# EAGLE library part G5V-2 (library df4iah_relay)
OMRON PCB Relay Source: http://www.omron.com/ecb/products/pdf/en-g5v2.pdf
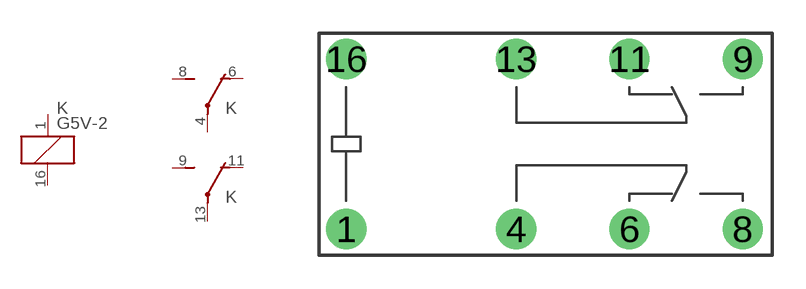
[diagram p143: symbol with the pads of G5V-2; footprint G5V-2]

Designator prefix K; gates A=K 1=U 2=U

## G5V-2 (MPN: G5V-2 5DC; OC_FARNELL: 9949488; OC_NEWARK: 78K5703)  [G5V-2]
1  A:1  pas
4  1:P  pas
6  1:O  pas
8  1:S  pas
9  2:S  pas
11  2:O  pas
13  2:P  pas
16  A:2  pas

## Footprint G5V-2 (pad centres in mm)
OMRON PCB Relay Source: http://www.omron.com/ecb/products/pdf/en-g5v2.pdf
drill 1 pad 1.8: 1 -8.89,-3.81; 4 -1.27,-3.81; 6 3.81,-3.81; 8 8.89,-3.81; 9 8.89,3.81; 11 3.81,3.81; 13 -1.27,3.81; 16 -8.89,3.81